# EAGLE library part ATSAMD21_64BGA (library maholli)
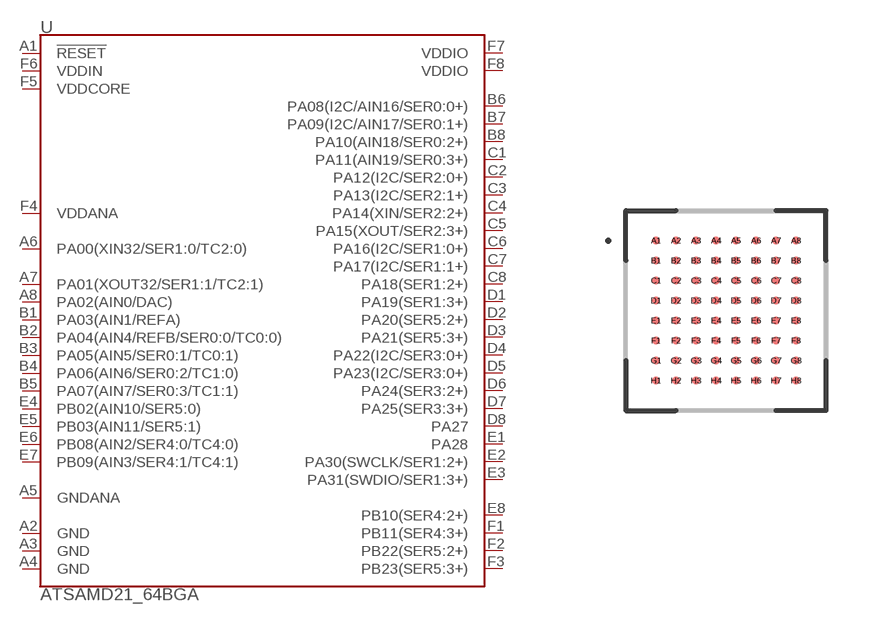
[diagram p17: symbol with the pads of BGA64C50P8X8_500X500X65; footprint BGA64C50P8X8_500X500X65]

Designator prefix U

## ATSAMD21_64BGA64BALL_BGA0.5  [BGA64C50P8X8_500X500X65]
A1  !RESET!
A2  GND
A3  GND
A4  GND
A5  GNDANA
A6  PA00(XIN32/SER1:0/TC2:0)
A7  PA01(XOUT32/SER1:1/TC2:1)
A8  PA02(AIN0/DAC)
B1  PA03(AIN1/REFA)
B2  PA04(AIN4/REFB/SER0:0/TC0:0)
B3  PA05(AIN5/SER0:1/TC0:1)
B4  PA06(AIN6/SER0:2/TC1:0)
B5  PA07(AIN7/SER0:3/TC1:1)
B6  PA08(I2C/AIN16/SER0:0+)
B7  PA09(I2C/AIN17/SER0:1+)
B8  PA10(AIN18/SER0:2+)
C1  PA11(AIN19/SER0:3+)
C2  PA12(I2C/SER2:0+)
C3  PA13(I2C/SER2:1+)
C4  PA14(XIN/SER2:2+)
C5  PA15(XOUT/SER2:3+)
C6  PA16(I2C/SER1:0+)
C7  PA17(I2C/SER1:1+)
C8  PA18(SER1:2+)
D1  PA19(SER1:3+)
D2  PA20(SER5:2+)
D3  PA21(SER5:3+)
D4  PA22(I2C/SER3:0+)
D5  PA23(I2C/SER3:0+)
D6  PA24(SER3:2+)
D7  PA25(SER3:3+)
D8  PA27
E1  PA28
E2  PA30(SWCLK/SER1:2+)
E3  PA31(SWDIO/SER1:3+)
E4  PB02(AIN10/SER5:0)
E5  PB03(AIN11/SER5:1)
E6  PB08(AIN2/SER4:0/TC4:0)
E7  PB09(AIN3/SER4:1/TC4:1)
E8  PB10(SER4:2+)
F1  PB11(SER4:3+)
F2  PB22(SER5:2+)
F3  PB23(SER5:3+)
F4  VDDANA
F5  VDDCORE
F6  VDDIN
F7  VDDIO
F8  VDDIO

## Footprint BGA64C50P8X8_500X500X65 (pad centres in mm)
64-BGA, collapsing, 0.5 mm pitch, 5 X 5 X 0.65 mm body 64-pin collapsing BGA package with 0.5 mm col pitch and 0.5 mm row pitch with body size 5 X 5 X 0.65 mm
smd 0.2 x 0.2: A1 -1.75,1.75; A2 -1.25,1.75; A3 -0.75,1.75; A4 -0.25,1.75; A5 0.25,1.75; A6 0.75,1.75; A7 1.25,1.75; A8 1.75,1.75; B1 -1.75,1.25; B2 -1.25,1.25; B3 -0.75,1.25; B4 -0.25,1.25; B5 0.25,1.25; B6 0.75,1.25; B7 1.25,1.25; B8 1.75,1.25; C1 -1.75,0.75; C2 -1.25,0.75; C3 -0.75,0.75; C4 -0.25,0.75; C5 0.25,0.75; C6 0.75,0.75; C7 1.25,0.75; C8 1.75,0.75; D1 -1.75,0.25; D2 -1.25,0.25; D3 -0.75,0.25; D4 -0.25,0.25; D5 0.25,0.25; D6 0.75,0.25; D7 1.25,0.25; D8 1.75,0.25; E1 -1.75,-0.25; E2 -1.25,-0.25; E3 -0.75,-0.25; E4 -0.25,-0.25; E5 0.25,-0.25; E6 0.75,-0.25; E7 1.25,-0.25; E8 1.75,-0.25; F1 -1.75,-0.75; F2 -1.25,-0.75; F3 -0.75,-0.75; F4 -0.25,-0.75; F5 0.25,-0.75; F6 0.75,-0.75; F7 1.25,-0.75; F8 1.75,-0.75; G1 -1.75,-1.25; G2 -1.25,-1.25; G3 -0.75,-1.25; G4 -0.25,-1.25; G5 0.25,-1.25; G6 0.75,-1.25; G7 1.25,-1.25; G8 1.75,-1.25; H1 -1.75,-1.75; H2 -1.25,-1.75; H3 -0.75,-1.75; H4 -0.25,-1.75; H5 0.25,-1.75; H6 0.75,-1.75; H7 1.25,-1.75; H8 1.75,-1.75